# EAGLE library part UCC21530 (library SOIC-14)
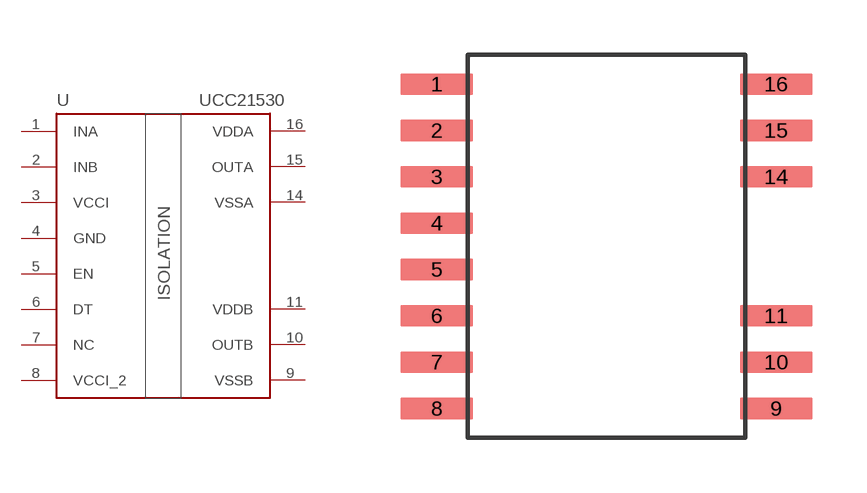
[diagram p0: symbol with the pads of SOIC-14; footprint SOIC-14]

Designator prefix U

## UCC21530  [SOIC-14]
1  INA
2  INB
3  VCCI
4  GND
5  EN  in
6  DT  in
7  NC
8  VCCI_2
9  VSSB
10  OUTB
11  VDDB
14  VSSA
15  OUTA
16  VDDA

## Footprint SOIC-14 (pad centres in mm)
smd 2 x 0.6: 1 0,8.89; 2 0,7.62; 3 0,6.35; 4 0,5.08; 5 0,3.81; 6 0,2.54; 7 0,1.27; 8 0,0; 9 9.3,0; 10 9.3,1.27; 11 9.3,2.54; 14 9.3,6.35; 15 9.3,7.62; 16 9.3,8.89